# EAGLE library part ADG3300 (library ADG3300)
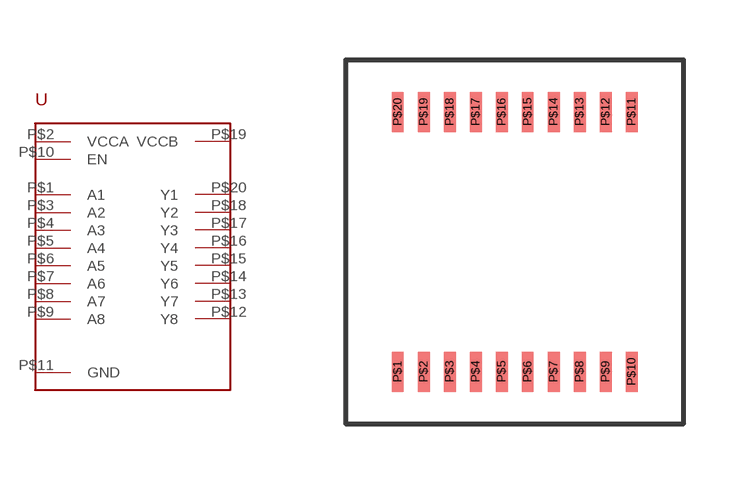
[diagram p0: symbol with the pads of TSSOP-20; footprint TSSOP-20]

Designator prefix -

## ADG3300  [TSSOP-20]
P$1  A1
P$2  VCCA
P$3  A2
P$4  A3
P$5  A4
P$6  A5
P$7  A6
P$8  A7
P$9  A8
P$10  EN
P$11  GND
P$12  Y8
P$13  Y7
P$14  Y6
P$15  Y5
P$16  Y4
P$17  Y3
P$18  Y2
P$19  VCCB
P$20  Y1

## Footprint TSSOP-20 (pad centres in mm)
smd 0.3 x 1: P$1 0,0; P$2 0.65,0; P$3 1.3,0; P$4 1.95,0; P$5 2.6,0; P$6 3.25,0; P$7 3.9,0; P$8 4.55,0; P$9 5.2,0; P$10 5.85,0; P$11 5.85,6.5; P$12 5.2,6.5; P$13 4.55,6.5; P$14 3.9,6.5; P$15 3.25,6.5; P$16 2.6,6.5; P$17 1.95,6.5; P$18 1.3,6.5; P$19 0.65,6.5; P$20 0,6.5